# Altium footprint library ISZ230N10NM6ATMA1.PcbLib: 1 footprints
Each footprint in its own frame and in the unit in brackets; x right, y up, seen from the top. Pads: shape width x height; smd on the part's side, far side on the other; paste and mask are expansions set on the pad; w line width, h text height; cw(c..) or ccw(c..) is an arc to the next point about the centre after c.
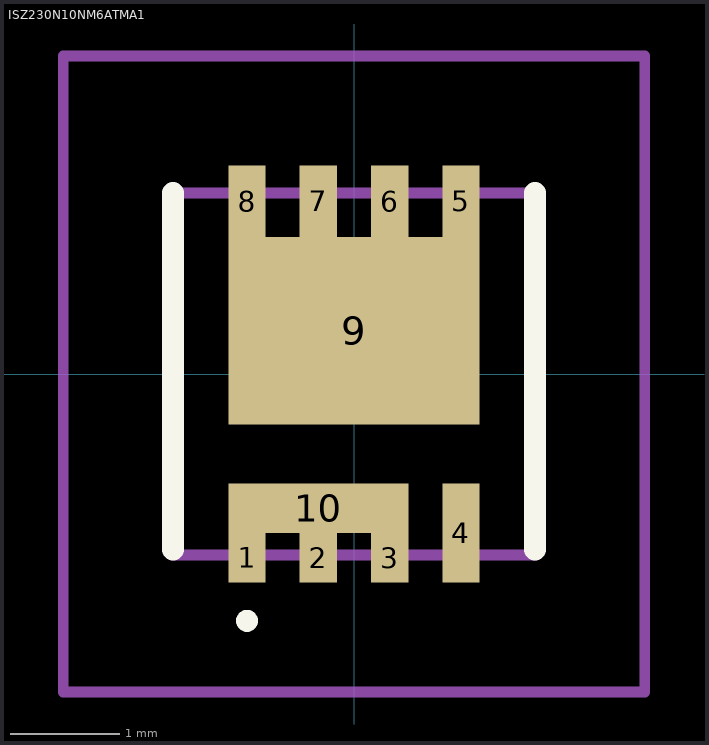
[diagram p0: the footprint, top view; thin cyan lines are the x and y axes]

## ISZ230N10NM6ATMA1 [mm]
pads (10):
  rect 0.34x0.45 smd: 1(-0.975,-1.675) 2(-0.325,-1.675) 3(0.325,-1.675)
  rect 0.34x0.9 smd: 4(0.975,-1.45)
  rect 0.34x0.65 smd: 5(0.975,1.575) 6(0.325,1.575) 7(-0.325,1.575) 8(-0.975,1.575)
  rect 2.29x1.71 smd: 9(0,0.395)
  rect 1.64x0.45 smd: 10(-0.325,-1.225)
Top Overlay:
  lines w0.1: -0.975,-2.3 cw(c-0.975,-2.25) -0.975,-2.2 ; -0.975,-2.3 -0.975,-2.3 ; -0.975,-2.3 ccw(c-0.975,-2.25) -0.975,-2.2 ; -0.975,-2.2 -0.975,-2.2
  lines w0.2: -1.65,-1.6 -1.65,1.65 ; 1.65,-1.6 1.65,1.65
Mechanical 15:
  lines w0.1: -1.65,-1.65 1.65,-1.65 1.65,1.65 -1.65,1.65 -1.65,-1.65
Mechanical 20:
  lines w0.1: -2.65,-2.9 2.65,-2.9 2.65,2.9 -2.65,2.9 -2.65,-2.9